# Altium footprint library MolexMicroFit3_3_POS.PcbLib: 1 footprints
Each footprint in its own frame and in the unit in brackets; x right, y up, seen from the top. Pads: shape width x height; smd on the part's side, far side on the other; paste and mask are expansions set on the pad; w line width, h text height; cw(c..) or ccw(c..) is an arc to the next point about the centre after c.
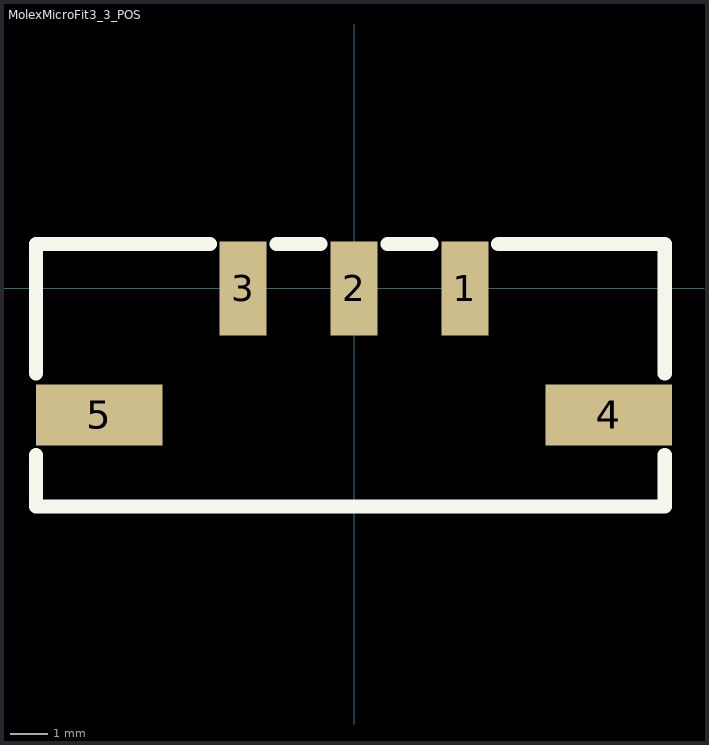
[diagram p0: the footprint, top view; thin cyan lines are the x and y axes]

## MolexMicroFit3_3_POS [mm]
pads (5):
  rect 1.27x2.54 smd: 1(3,0) 2(0,0) 3(-3,0)
  rect 3.43x1.65 smd: 4(6.885,-3.42) 5(-6.885,-3.42)
Top Overlay:
  lines w0.381: -8.6,-4.5 -8.6,-5.9 8.4,-5.9 8.4,-4.5 ; -8.6,-2.3 -8.6,1.2 -3.9,1.2 ; -2.1,1.2 -0.9,1.2 ; 0.9,1.2 2.1,1.2 ; 3.9,1.2 8.4,1.2 8.4,-2.3
3D body: height 0.7, standoff 0, extent 1.9,-3.8 1.9,-3.8
3D body "436500324.stp": height 9.94, standoff 0.01, extent -8.325,-5.89 8.325,0.68